# EAGLE library part HARWIN_10PINJT (library DSDEagleLibrary)
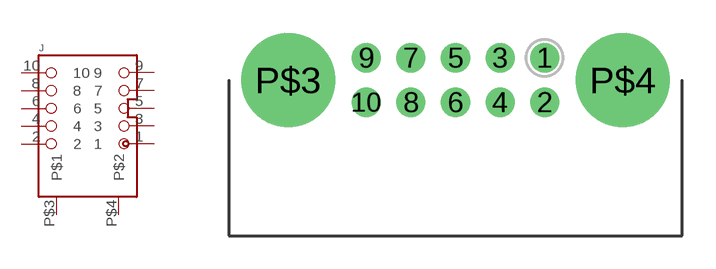
[diagram p43: symbol with the pads of HARWIN_10PINJT; footprint HARWIN_10PINJT]

Designator prefix J

## HARWIN_10PINJT  [HARWIN_10PINJT]
1  1
2  2
3  3
4  4
5  5
6  6
7  7
8  8
9  9
10  10
P$3  P$1
P$4  P$2

## Footprint HARWIN_10PINJT (pad centres in mm)
drill 0.8: 1 4,1; 2 4,-1; 3 2,1; 4 2,-1; 5 0,1; 6 0,-1; 7 -2,1; 8 -2,-1; 9 -4,1; 10 -4,-1
drill 2.2 pad 4.2: P$3 -7.5,0; P$4 7.5,0